# Altium footprint library APSS Flight Parts.PcbLib: 80 footprints (part 5 of 5)
Each footprint in its own frame and in the unit in brackets; x right, y up, seen from the top. Pads: shape width x height; smd on the part's side, far side on the other; paste and mask are expansions set on the pad; w line width, h text height; cw(c..) or ccw(c..) is an arc to the next point about the centre after c.
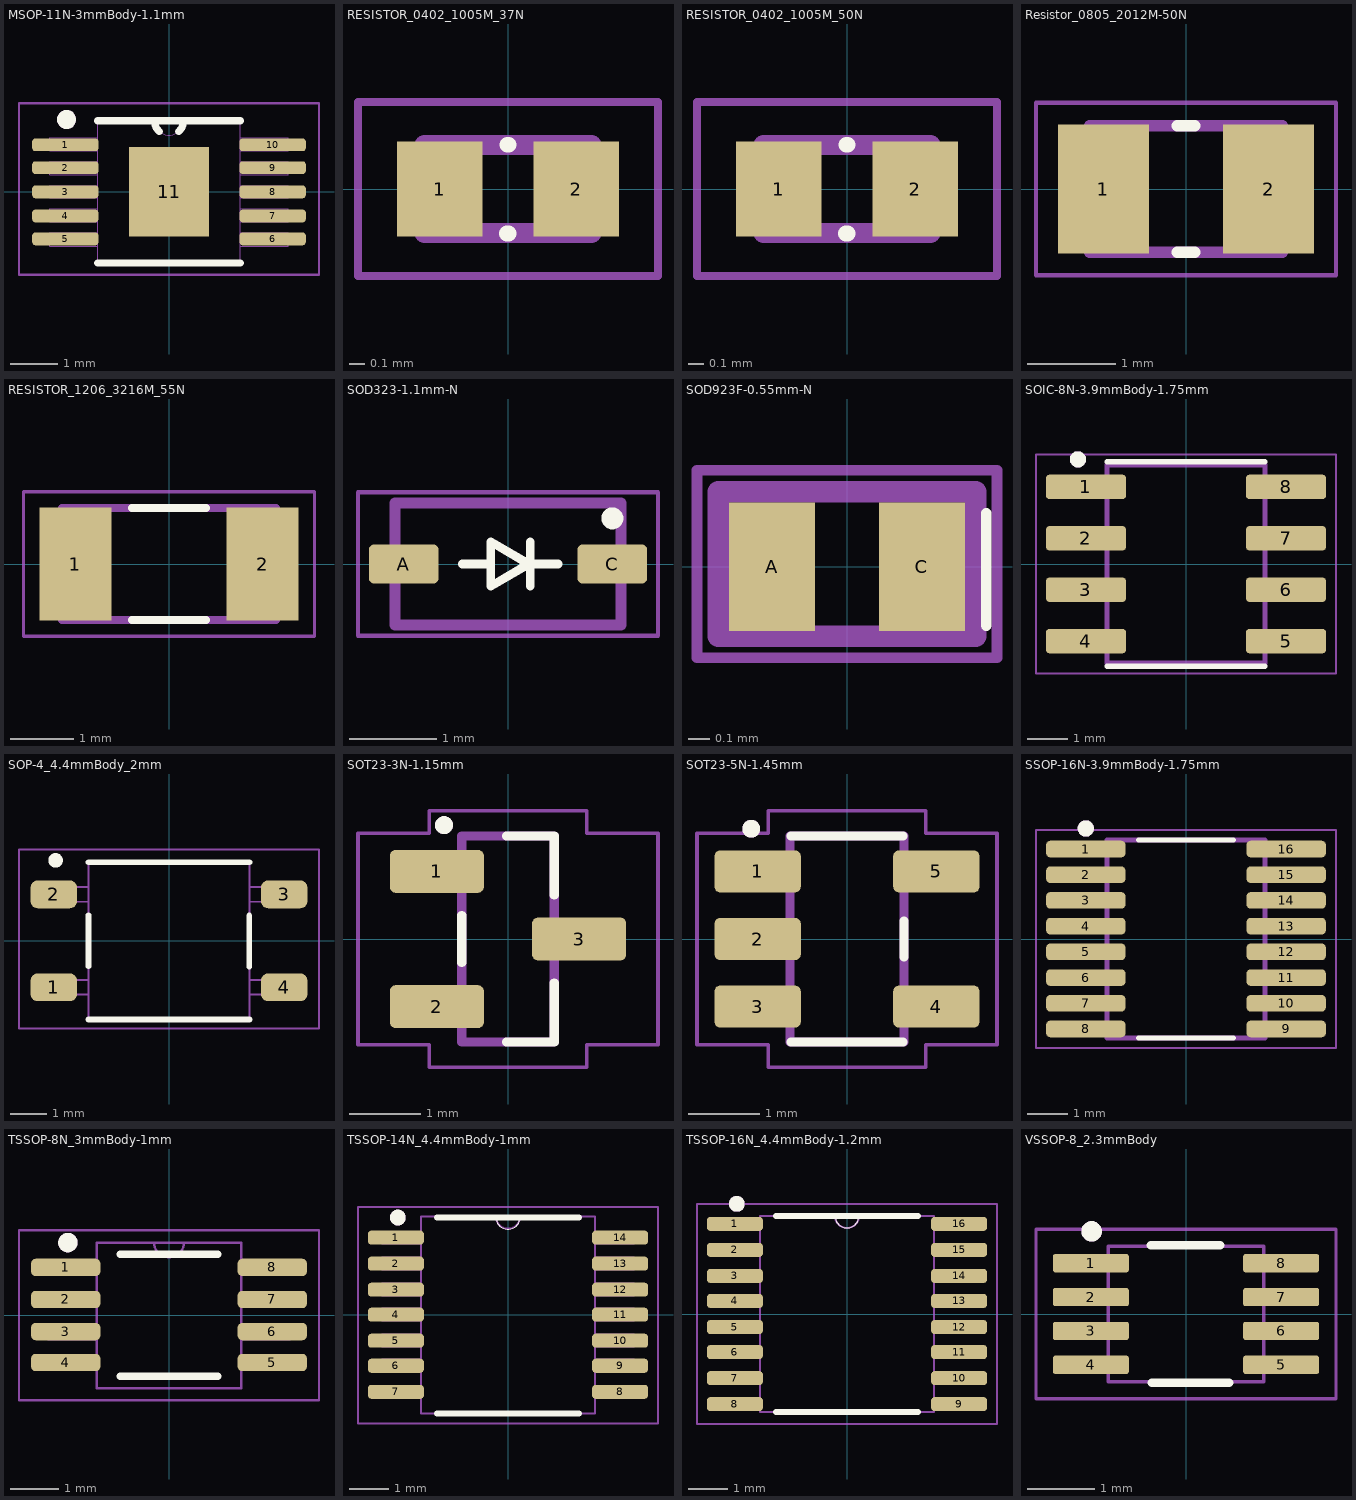
[diagram p4: the footprints below, top view; thin cyan lines are the x and y axes]

## MSOP-11N-3mmBody-1.1mm [mil] "MSOP-10 with power pad, 3mm body width, 1.1mm high, nominal pads"
height 43.31
pads (11):
  rrect50% 55x10.63 smd mask+2: 1(-86,39) 2(-86,20) 3(-86,0) 4(-86,-20) 5(-86,-39) 6(86,-39) 7(86,-20) 8(86,0) 9(86,20) 10(86,39)
  rect 66x74 smd mask+2: 11(0,0)
Top Overlay:
  circle w7.87: c-85,60 r3.94
  lines w6: -59,-59 59,-59 ; -59,59 -12,59 ; -7.99,49.99 cw(c0.11,58.99) -12,58.99 ; 7.99,49.99 ccw(c-0.11,58.99) 12,58.99 ; 59,59 12,59 ; -12,59 12,59
Mechanical 13:
  circle w7.87: c-85,60 r3.94
  lines w1: -99,-45 -59,-45 ; -99,-45 -99,-34 ; -99,-45 -59,-45 ; -99,-45 -99,-34 ; -99,-34 -59,-34 ; -99,-34 -59,-34 ; -99,-25 -59,-25 ; -99,-25 -99,-14 ; -99,-25 -59,-25 ; -99,-25 -99,-14 ; -99,-14 -59,-14 ; -99,-14 -59,-14 ; -99,-5 -59,-5 ; -99,-5 -99,5 ; -99,-5 -59,-5 ; -99,-5 -99,5 ; -99,5 -59,5 ; -99,5 -59,5 ; -99,14 -59,14 ; -99,14 -99,25 ; -99,14 -59,14 ; -99,14 -99,25 ; -99,25 -59,25 ; -99,25 -59,25 ; -99,34 -59,34 ; -99,34 -99,45 ; -99,34 -59,34 ; -99,34 -99,45 ; -99,45 -59,45 ; -99,45 -59,45 ; -59,-59 -59,59 ; -59,-59 59,-59 ; -59,-59 -59,59 ; -59,-59 59,-59 ; -59,-45 -59,-34 ; -59,-45 -59,-34 ; -59,-25 -59,-14 ; -59,-25 -59,-14 ; -59,-5 -59,5 ; -59,-5 -59,5 ; -59,14 -59,25 ; -59,14 -59,25 ; -59,34 -59,45 ; -59,34 -59,45 ; -59,59 -12,59 ; -59,59 -12,59 ; -12,59 ccw(c0,59) 12,59 ; -12,59 ccw(c0,59) 12,59 ; -12,59 12,59 ; -12,59 12,59 ; 12,59 59,59 ; 12,59 59,59 ; 59,-59 59,59 ; 59,-59 59,59 ; 59,-45 99,-45 ; 59,-45 59,-34 ; 59,-45 99,-45 ; 59,-45 59,-34 ; 59,-34 99,-34 ; 59,-34 99,-34 ; 59,-25 99,-25 ; 59,-25 59,-14 ; 59,-25 99,-25 ; 59,-25 59,-14 ; 59,-14 99,-14 ; 59,-14 99,-14 ; 59,-5 99,-5 ; 59,-5 59,5 ; 59,-5 99,-5 ; 59,-5 59,5 ; 59,5 99,5 ; 59,5 99,5 ; 59,14 99,14 ; 59,14 59,25 ; 59,14 99,14 ; 59,14 59,25 ; 59,25 99,25 ; 59,25 99,25 ; 59,34 99,34 ; 59,34 59,45 ; 59,34 99,34 ; 59,34 59,45 ; 59,45 99,45 ; 59,45 99,45 ; 99,-45 99,-34 ; 99,-45 99,-34 ; 99,-25 99,-14 ; 99,-25 99,-14 ; 99,-5 99,5 ; 99,-5 99,5 ; 99,14 99,25 ; 99,14 99,25 ; 99,34 99,45 ; 99,34 99,45
Mechanical 15:
  lines w1.97: -124.41,-68.9 -124.41,73.62 124.41,73.62 124.41,-68.9 -124.41,-68.9
3D body "LTC2634HMSE-HZ12PBF.step": height 43.31, standoff 0, extent -96.46,-59.06 96.46,59.06

## RESISTOR_0402_1005M_37N [mm] "Resistor, 0402 (1005 metric), 0.37mm height, nominal pads"
height 0.37
pads (2):
  rect 0.54x0.6 smd mask+0.051: 1(-0.432,0) 2(0.432,0)
Top Overlay:
  lines w0.1: -0.007,-0.282 0.003,-0.282 ; -0.005,0.28 0.005,0.28
Mechanical 13:
  lines w0.127: -0.53,-0.28 0.53,-0.28 0.53,0.28 -0.53,0.28 -0.53,-0.28
Mechanical 15:
  lines w0.05: -0.95,-0.55 0.95,-0.55 0.95,0.55 -0.95,0.55 -0.95,-0.55
3D body "RE0402BRE07560KL.step": height 0.37, standoff 0, extent -0.5,-0.25 0.5,0.25

## RESISTOR_0402_1005M_50N [mm] "Resistor, 0402 (1005 metric), 0.5mm height, nominal pads"
height 0.5
pads (2):
  rect 0.54x0.6 smd mask+0.051: 1(-0.432,0) 2(0.432,0)
Top Overlay:
  lines w0.1: -0.007,-0.282 0.003,-0.282 ; -0.005,0.28 0.005,0.28
Mechanical 13:
  lines w0.127: -0.53,-0.28 0.53,-0.28 0.53,0.28 -0.53,0.28 -0.53,-0.28
Mechanical 15:
  lines w0.05: -0.95,-0.55 0.95,-0.55 0.95,0.55 -0.95,0.55 -0.95,-0.55
3D body "NCP15XH103F03RC.step": height 0.48, standoff -0.02, extent -0.475,-0.279 0.525,0.271

## Resistor_0805_2012M-50N [mm] "Resistor, 0805 (2012 metric), nominal pads"
height 0.5
pads (2):
  rect 1.04x1.47 smd mask+0.051: 1(-0.94,0) 2(0.94,0)
Top Overlay:
  lines w0.127: -0.1,-0.72 0.1,-0.72 ; -0.1,0.72 0.1,0.72
Mechanical 13:
  lines w0.127: -1.1,-0.72 1.1,-0.72 1.1,0.72 -1.1,0.72 -1.1,-0.72
Mechanical 15:
  lines w0.05: -1.708,-0.983 1.708,-0.983 1.708,0.983 -1.708,0.983 -1.708,-0.983
3D body "RG2012P-103-D-T5.step": height 0.5, standoff 0, extent -1,-0.625 1,0.625

## RESISTOR_1206_3216M_55N [mm]
height 0.55
pads (2):
  rect 1.13x1.77 smd mask+0.051: 1(-1.47,0) 2(1.47,0)
Top Overlay:
  lines w0.127: -0.58,-0.88 0.58,-0.88 ; -0.58,0.88 0.58,0.88
Mechanical 13:
  lines w0.127: -1.68,-0.88 1.68,-0.88 1.68,0.88 -1.68,0.88 -1.68,-0.88
Mechanical 15:
  lines w0.05: -2.285,-1.135 2.285,-1.135 2.285,1.135 -2.285,1.135 -2.285,-1.135
3D body "TNPW120610K0BETA.STEP": height 0.65, standoff 0, extent -1.6,-0.8 1.6,0.8

## SOD323-1.1mm-N [mm] "SOD-323, nominal pads, 1.1mm high"
height 1.1
pads (2):
  rrect25% 0.8x0.45 smd mask+0.051: A(-1.2,0) C(1.2,0)
Top Overlay:
  circle w0.2: c1.2,0.525 r0.025
  lines w0.1: -0.525,0 -0.2,0 ; 0.206,0 0.575,0 ; 0.257,-0.254 0.257,0.254 ; -0.2,-0.254 0.24,0 -0.2,0.254 -0.2,-0.254
Mechanical 13:
  lines w0.127: -1.3,-0.7 1.3,-0.7 1.3,0.7 -1.3,0.7 -1.3,-0.7
Mechanical 15:
  lines w0.05: -1.725,-0.825 -1.725,0.825 -1.105,0.825 1.105,0.825 1.725,0.825 1.725,-0.825 -1.725,-0.825
3D body "CR_SOD323_DIO.step": height 1.05, standoff 0, extent -1.346,-0.698 1.346,0.698

## SOD923F-0.55mm-N [mm] "SOD-923F, nominal pads, 0.55mm high"
height 0.55
pads (2):
  rect 0.4x0.6 smd mask+0.051: A(-0.35,0) C(0.35,0)
Top Overlay:
  lines w0.05: 0.65,-0.275 0.65,0.25
Mechanical 13:
  lines w0.1: -0.6,-0.325 0.6,-0.325 0.6,0.35 -0.6,0.35 -0.6,-0.325
Mechanical 15:
  lines w0.05: -0.7,-0.425 0.7,-0.425 0.7,0.45 -0.7,0.45 -0.7,-0.425
3D body "CDBQC0130L-HF.STEP": height 0.54, standoff -0.01, extent -0.5,-0.3 0.5,0.3

## SOIC-8N-3.9mmBody-1.75mm [mm] "8-SOIC, 8 pins, 3.9mm body width, nominal pads, 1.75mm high"
height 1.75
pads (8):
  rrect25% 1.97x0.6 smd: 1(-2.47,1.905) 2(-2.47,0.635) 3(-2.47,-0.635) 4(-2.47,-1.905) 5(2.47,-1.905) 6(2.47,-0.635) 7(2.47,0.635) 8(2.47,1.905)
Top Overlay:
  circle w0.2: c-2.668,2.584 r0.1
  lines w0.127: -1.95,-2.525 1.95,-2.525 ; -1.95,2.525 1.95,2.525
Mechanical 13:
  circle w0.2: c-2.668,2.584 r0.1
  lines w0.127: -1.95,-2.452 -1.95,2.452 1.95,2.452 1.95,-2.452 -1.95,-2.452
Mechanical 15:
  lines w0.05: -3.705,-2.702 -3.705,2.702 3.705,2.702 3.705,-2.702 -3.705,-2.702
3D body "TLC555CDR.step": height 1.75, standoff 0, extent -3,-2.45 3,2.45

## SOP-4_4.4mmBody_2mm [mm] "2.54mm pitch, 4.4mm wide, 2mm tall"
height 2
pads (4):
  rrect50% 1.27x0.76 smd mask+0.051: 1(-3.15,-1.27) 2(-3.15,1.27) 3(3.15,1.27) 4(3.15,-1.27)
Top Overlay:
  circle w0.2: c-3.1,2.2 r0.1
  lines w0.152: -2.2,-2.15 2.2,-2.15 ; -2.2,-0.7 -2.2,0.7 ; -2.2,2.15 2.2,2.15 ; 2.196,-0.708 2.196,0.692
Mechanical 13:
  circle w0.051: c-3.1,2.2 r0.1
  lines w0.051: -2.199,-1.47 -3.399,-1.47 -3.399,-1.07 -2.199,-1.07 ; -2.199,1.07 -3.399,1.07 -3.399,1.47 -2.199,1.47 ; 2.199,-1.47 3.399,-1.47 3.399,-1.07 2.199,-1.07 ; 2.199,1.07 3.399,1.07 3.399,1.47 2.199,1.47 ; -2.2,-2.15 -2.2,2.15 2.2,2.15 2.2,-2.15 -2.2,-2.15
Mechanical 15:
  lines w0.05: -4.1,-2.4 -4.1,2.5 4.1,2.5 4.1,-2.4 -4.1,-2.4
3D body "4-SOP v4_stretched.stp": height 0, standoff 0, extent 0,0 0,0
3D body "4-SOP v4 stretched.step": height 2.12, standoff 0.01, extent -3.424,-2.044 3.401,2.044

## SOT23-3N-1.15mm [mm] "SOT23, 3-pin, 1.15mm high, nominal pads"
height 1.15
pads (3):
  rrect25% 1.32x0.6 smd mask+0.051: 1(-1,0.95) 2(-1,-0.95) 3(1,0)
Top Overlay:
  circle w0.2: c-0.9,1.6 r0.025
  lines w0.127: -0.65,-0.33 -0.65,0.33 ; -0.02,-1.45 0.65,-1.45 0.65,-0.62 ; -0.02,1.45 0.65,1.45 0.65,0.62
Mechanical 13:
  circle w0.2: c-0.9,1.6 r0.025
  lines w0.127: -0.65,-1.45 -0.65,1.45 0.65,1.45 0.65,-1.45 -0.65,-1.45
Mechanical 15:
  lines w0.05: -2.108,-1.483 -2.108,1.483 -1.105,1.483 -1.105,1.803 1.105,1.803 1.105,1.483 2.108,1.483 2.108,-1.483 1.105,-1.483 1.105,-1.803 -1.105,-1.803 -1.105,-1.483 -2.108,-1.483
3D body "SOT23.step": height 0.91, standoff -0.04, extent -1.194,-1.45 1.206,1.45

## SOT23-5N-1.45mm [mm] "SOT23, 5 pins, nominal pads, 1.45mm high"
height 1.45
pads (5):
  rrect25% 1.21x0.59 smd mask+0.051: 1(-1.255,0.95) 2(-1.255,0) 3(-1.255,-0.95) 4(1.255,-0.95) 5(1.255,0.95)
Top Overlay:
  circle w0.2: c-1.346,1.549 r0.025
  lines w0.127: -0.787,-1.45 0.787,-1.45 ; -0.787,1.45 0.787,1.45 ; 0.8,-0.254 0.8,0.254
Mechanical 13:
  circle w0.2: c-1.346,1.549 r0.025
  lines w0.127: -0.8,-1.45 0.8,-1.45 0.8,1.45 -0.8,1.45 -0.8,-1.45
Mechanical 15:
  lines w0.05: -2.108,-1.483 -1.105,-1.483 -1.105,-1.803 1.105,-1.803 1.105,-1.483 2.108,-1.483 2.108,1.483 1.105,1.483 1.105,1.803 -1.105,1.803 -1.105,1.483 -2.108,1.483 -2.108,-1.483
3D body "step_temp.STEP": height 1.45, standoff 0, extent -1.4,-1.45 1.4,1.45

## SSOP-16N-3.9mmBody-1.75mm [mm] "SSOP, 16 pins, 3.9mm wide body, 1.75mm high"
height 1.75
pads (16):
  rrect50% 1.96x0.41 smd mask+0.051: 1(-2.475,2.222) 2(-2.475,1.587) 3(-2.475,0.953) 4(-2.475,0.318) 5(-2.475,-0.318) 6(-2.475,-0.953) 7(-2.475,-1.587) 8(-2.475,-2.222) 9(2.475,-2.222) 10(2.475,-1.587) 11(2.475,-0.953) 12(2.475,-0.318) 13(2.475,0.318) 14(2.475,0.953) 15(2.475,1.587) 16(2.475,2.222)
Top Overlay:
  circle w0.2: c-2.475,2.73 r0.1
  lines w0.127: -1.175,-2.445 1.175,-2.445 ; -1.175,2.445 1.175,2.445
Mechanical 13:
  circle w0.2: c-2.475,2.73 r0.1
  lines w0.127: -1.95,-2.445 1.95,-2.445 1.95,2.445 -1.95,2.445 -1.95,-2.445
Mechanical 15:
  lines w0.05: -3.705,-2.695 3.705,-2.695 3.705,2.695 -3.705,2.695 -3.705,-2.695
3D body "step_temp.STEP": height 1.75, standoff 0, extent -3.004,-2.445 3.004,2.445

## TSSOP-8N_3mmBody-1mm [mil] "TSSOP, 0.65mm pitch, 3mm body, 1mm high, nominal pads"
height 39.37
pads (8):
  rrect50% 56x14 smd mask+2: 1(-83.61,38.62) 2(-83.61,12.62) 3(-83.61,-13.38) 4(-83.61,-38.38) 5(83.61,-38.38) 6(83.61,-13.38) 7(83.61,12.62) 8(83.61,38.62)
Top Overlay:
  circle w7.87: c-81.89,58.66 r3.94
  lines w6: -39.37,-49.41 39.37,-49.41 ; -39.37,49.41 39.37,49.41
Mechanical 13:
  circle w7.87: c-81.89,58.66 r3.94
  lines w2: -12,58.66 ccw(c0,58.66) 12,58.66 ; -97.61,-44.38 -97.61,-32.38 ; -97.61,-44.38 -58.61,-44.38 ; -97.61,-44.38 -97.61,-32.38 ; -97.61,-44.38 -58.61,-44.38 ; -97.61,-32.38 -58.61,-32.38 ; -97.61,-32.38 -58.61,-32.38 ; -97.61,-19.38 -97.61,-7.38 ; -97.61,-19.38 -58.61,-19.38 ; -97.61,-19.38 -97.61,-7.38 ; -97.61,-19.38 -58.61,-19.38 ; -97.61,-7.38 -58.61,-7.38 ; -97.61,-7.38 -58.61,-7.38 ; -97.61,6.62 -97.61,18.62 ; -97.61,6.62 -58.61,6.62 ; -97.61,6.62 -97.61,18.62 ; -97.61,6.62 -58.61,6.62 ; -97.61,18.62 -58.61,18.62 ; -97.61,18.62 -58.61,18.62 ; -97.61,32.62 -97.61,43.62 ; -97.61,32.62 -58.61,32.62 ; -97.61,32.62 -97.61,43.62 ; -97.61,32.62 -58.61,32.62 ; -97.61,43.62 -58.61,43.62 ; -97.61,43.62 -58.61,43.62 ; -58.61,-44.38 -58.61,-32.38 ; -58.61,-44.38 -58.61,-32.38 ; -58.61,-19.38 -58.61,-7.38 ; -58.61,-19.38 -58.61,-7.38 ; -58.61,6.62 -58.61,18.62 ; -58.61,6.62 -58.61,18.62 ; -58.61,32.62 -58.61,43.62 ; -58.61,32.62 -58.61,43.62 ; 58.61,-44.38 58.61,-32.38 ; 58.61,-44.38 97.61,-44.38 ; 58.61,-44.38 58.61,-32.38 ; 58.61,-44.38 97.61,-44.38 ; 58.61,-32.38 97.61,-32.38 ; 58.61,-32.38 97.61,-32.38 ; 58.61,-19.38 58.61,-7.38 ; 58.61,-19.38 97.61,-19.38 ; 58.61,-19.38 58.61,-7.38 ; 58.61,-19.38 97.61,-19.38 ; 58.61,-7.38 97.61,-7.38 ; 58.61,-7.38 97.61,-7.38 ; 58.61,6.62 58.61,18.62 ; 58.61,6.62 97.61,6.62 ; 58.61,6.62 58.61,18.62 ; 58.61,6.62 97.61,6.62 ; 58.61,18.62 97.61,18.62 ; 58.61,18.62 97.61,18.62 ; 58.61,32.62 58.61,43.62 ; 58.61,32.62 97.61,32.62 ; 58.61,32.62 58.61,43.62 ; 58.61,32.62 97.61,32.62 ; 58.61,43.62 97.61,43.62 ; 58.61,43.62 97.61,43.62 ; 97.61,-44.38 97.61,-32.38 ; 97.61,-44.38 97.61,-32.38 ; 97.61,-19.38 97.61,-7.38 ; 97.61,-19.38 97.61,-7.38 ; 97.61,6.62 97.61,18.62 ; 97.61,6.62 97.61,18.62 ; 97.61,32.62 97.61,43.62 ; 97.61,32.62 97.61,43.62 ; -58.61,-59.06 -58.61,58.66 -21.28,58.66 21.28,58.66 58.61,58.66 58.61,-59.06 -58.61,-59.06
Mechanical 15:
  lines w1.97: -121.42,-68.9 -121.42,68.5 121.42,68.5 121.42,-68.9 -121.42,-68.9
3D body "ADA4096-2ARMZ-RL.STEP": height 43.31, standoff 0, extent -96.46,-59.06 96.45,59.05

## TSSOP-14N_4.4mmBody-1mm [mil] "TSSOP, 0.65mm pitch, 4.4mm body, 1mm high, nominal pads"
height 39.37
pads (14):
  rrect50% 56x14 smd mask+2: 1(-112,77.2) 2(-112,51.2) 3(-112,25.2) 4(-112,0.2) 5(-112,-25.8) 6(-112,-50.8) 7(-112,-76.8) 8(112,-76.8) 9(112,-50.8) 10(112,-25.8) 11(112,0.2) 12(112,25.2) 13(112,51.2) 14(112,77.2)
Top Overlay:
  circle w7.87: c-110,97.2 r3.94
  lines w0: -12,97.41 ccw(c0,97.41) 12,97.41 cw(c0,97.41) -12,97.41
  lines w6: -71,-98.43 71,-98.43 ; -71,97.41 -12,97.41 12,97.41 71,97.41
Mechanical 13:
  circle w7.87: c-110,97.2 r3.94
  lines w2: -87,-82.8 -126,-82.8 -126,-70.8 -87,-70.8 ; -87,-56.8 -126,-56.8 -126,-44.8 -87,-44.8 ; -87,-31.8 -126,-31.8 -126,-19.8 -87,-19.8 ; -87,-5.8 -126,-5.8 -126,6.2 -87,6.2 ; -87,19.2 -126,19.2 -126,31.2 -87,31.2 ; -87,45.2 -126,45.2 -126,57.2 -87,57.2 ; -87,71.2 -126,71.2 -126,82.2 -87,82.2 ; -12,98.03 ccw(c0,98.03) 12,98.03 ; 87,-82.8 126,-82.8 126,-70.8 87,-70.8 ; 87,-56.8 126,-56.8 126,-44.8 87,-44.8 ; 87,-31.8 126,-31.8 126,-19.8 87,-19.8 ; 87,-5.8 126,-5.8 126,6.2 87,6.2 ; 87,19.2 126,19.2 126,31.2 87,31.2 ; 87,45.2 126,45.2 126,57.2 87,57.2 ; 87,71.2 126,71.2 126,82.2 87,82.2 ; -87,-98.43 87,-98.43 87,98.03 24.83,98.03 -24.83,98.03 -87,98.03 -87,-98.43
Mechanical 15:
  lines w1.97: -149.8,-108.27 -149.8,107.87 149.8,107.87 149.8,-108.27 -149.8,-108.27
3D body "ADA4096-4ARUZ.STEP": height 47.24, standoff 0, extent -125.98,-98.43 125.98,98.43

## TSSOP-16N_4.4mmBody-1.2mm [mil] "TSSOP, 0.65mm pitch, 4.4mm body, 1.2mm high, nominal pads"
height 47.24
pads (16):
  rrect50% 56x14 smd mask+2: 1(-112,90) 2(-112,64) 3(-112,38) 4(-112,13) 5(-112,-13) 6(-112,-38) 7(-112,-64) 8(-112,-90) 9(112,-90) 10(112,-64) 11(112,-38) 12(112,-13) 13(112,13) 14(112,38) 15(112,64) 16(112,90)
Top Overlay:
  circle w7.87: c-110,110 r3.94
  lines w0: -12,98 ccw(c0,98) 12,98 cw(c0,98) -12,98
  lines w6: -71,-98 71,-98 ; -71,98 -12,98 12,98 71,98
Mechanical 13:
  circle w7.87: c-110,110 r3.94
  lines w2: -126,-95 -126,-84 ; -126,-95 -87,-95 ; -126,-95 -126,-84 ; -126,-95 -87,-95 ; -126,-84 -87,-84 ; -126,-84 -87,-84 ; -126,-70 -126,-58 ; -126,-70 -87,-70 ; -126,-70 -126,-58 ; -126,-70 -87,-70 ; -126,-58 -87,-58 ; -126,-58 -87,-58 ; -126,-44 -126,-32 ; -126,-44 -87,-44 ; -126,-44 -126,-32 ; -126,-44 -87,-44 ; -126,-32 -87,-32 ; -126,-32 -87,-32 ; -126,-19 -126,-7 ; -126,-19 -87,-19 ; -126,-19 -126,-7 ; -126,-19 -87,-19 ; -126,-7 -87,-7 ; -126,-7 -87,-7 ; -126,7 -126,19 ; -126,7 -87,7 ; -126,7 -126,19 ; -126,7 -87,7 ; -126,19 -87,19 ; -126,19 -87,19 ; -126,32 -126,44 ; -126,32 -87,32 ; -126,32 -126,44 ; -126,32 -87,32 ; -126,44 -87,44 ; -126,44 -87,44 ; -126,58 -126,70 ; -126,58 -87,58 ; -126,58 -126,70 ; -126,58 -87,58 ; -126,70 -87,70 ; -126,70 -87,70 ; -126,84 -126,95 ; -126,84 -87,84 ; -126,84 -126,95 ; -126,84 -87,84 ; -126,95 -87,95 ; -126,95 -87,95 ; -87,-98 87,-98 ; -87,-98 -87,98 ; -87,-98 87,-98 ; -87,-98 -87,98 ; -87,-95 -87,-84 ; -87,-95 -87,-84 ; -87,-70 -87,-58 ; -87,-70 -87,-58 ; -87,-44 -87,-32 ; -87,-44 -87,-32 ; -87,-19 -87,-7 ; -87,-19 -87,-7 ; -87,7 -87,19 ; -87,7 -87,19 ; -87,32 -87,44 ; -87,32 -87,44 ; -87,58 -87,70 ; -87,58 -87,70 ; -87,84 -87,95 ; -87,84 -87,95 ; -87,98 -12,98 ; -87,98 -12,98 ; -12,98 ccw(c0,98) 12,98 ; -12,98 ccw(c0,98) 12,98 ; -12,98 ccw(c0,98) 12,98 ; -12,98 ccw(c0,98) 12,98 ; -12,98 12,98 ; -12,98 12,98 ; 12,98 87,98 ; 12,98 87,98 ; 87,-98 87,98 ; 87,-98 87,98 ; 87,-95 87,-84 ; 87,-95 126,-95 ; 87,-95 87,-84 ; 87,-95 126,-95 ; 87,-84 126,-84 ; 87,-84 126,-84 ; 87,-70 87,-58 ; 87,-70 126,-70 ; 87,-70 87,-58 ; 87,-70 126,-70 ; 87,-58 126,-58 ; 87,-58 126,-58 ; 87,-44 87,-32 ; 87,-44 126,-44 ; 87,-44 87,-32 ; 87,-44 126,-44 ; 87,-32 126,-32 ; 87,-32 126,-32 ; 87,-19 87,-7 ; 87,-19 126,-19 ; 87,-19 87,-7 ; 87,-19 126,-19 ; 87,-7 126,-7 ; 87,-7 126,-7 ; 87,7 87,19 ; 87,7 126,7 ; 87,7 87,19 ; 87,7 126,7 ; 87,19 126,19 ; 87,19 126,19 ; 87,32 87,44 ; 87,32 126,32 ; 87,32 87,44 ; 87,32 126,32 ; 87,44 126,44 ; 87,44 126,44 ; 87,58 87,70 ; 87,58 126,58 ; 87,58 87,70 ; 87,58 126,58 ; 87,70 126,70 ; 87,70 126,70 ; 87,84 87,95 ; 87,84 126,84 ; 87,84 87,95 ; 87,84 126,84 ; 87,95 126,95 ; 87,95 126,95 ; 126,-95 126,-84 ; 126,-95 126,-84 ; 126,-70 126,-58 ; 126,-70 126,-58 ; 126,-44 126,-32 ; 126,-44 126,-32 ; 126,-19 126,-7 ; 126,-19 126,-7 ; 126,7 126,19 ; 126,7 126,19 ; 126,32 126,44 ; 126,32 126,44 ; 126,58 126,70 ; 126,58 126,70 ; 126,84 126,95 ; 126,84 126,95
Mechanical 15:
  lines w1.97: -149.8,-110.04 -149.8,110.04 149.8,110.04 149.8,-110.04 -149.8,-110.04
3D body "ADC128S052CIMT.STEP": height 46.26, standoff -0.98, extent -125.98,-98.43 125.99,98.43

## VSSOP-8_2.3mmBody [mm] "VSSOP-8, 0.5mm pitch, 2.3mm body"
pads (8):
  rrect25% 1.12x0.27 smd mask+0.051: 1(-1.405,0.75) 2(-1.405,0.25) 3(-1.405,-0.25) 4(-1.405,-0.75) 5(1.405,-0.75) 6(1.405,-0.25) 7(1.405,0.25) 8(1.405,0.75)
Top Overlay:
  circle w0.2: c-1.394,1.22 r0.051
  lines w0.127: -0.522,1.016 0.508,1.016 ; -0.508,-1.016 0.635,-1.016
Mechanical 13:
  circle w0.2: c-1.394,1.22 r0.051
  lines w0.051: -1.15,-1 -1.15,1 1.15,1 1.15,-1 -1.15,-1
Mechanical 15:
  lines w0.05: -2.215,-1.25 -2.215,1.25 2.215,1.25 2.215,-1.25 -2.215,-1.25
3D body "step_temp.STEP": height 0.9, standoff 0, extent -1.55,-1 1.55,1